# EAGLE library part 61302625721 (library Wurth_Elektronik_Electromechanic_Board_to_Board_Connectors_rev16a)
WR-PHD 2.54mm Dual Socket Header Bottom Entry, 26 Pins =>Code : Con_BTB_SHD_2.54_2_61302625721 <http://katalog.we-online.de/media/images/eican/Con_BTB_SHD_2.54_2_6130xx25721_pf2.jpg> Details see: http://katalog.we-online.de/en/em/613_0xx_257_21 Created 2014-05-30, Karrer Zheng 2014 (C) Würth Elektronik
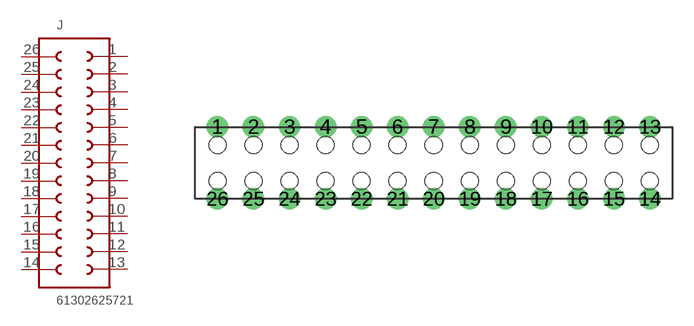
[diagram p163: symbol with the pads of 61302625721; footprint 61302625721]

Designator prefix J

## 61302625721  [61302625721]
1  1  pas
2  2  pas
3  3  pas
4  4  pas
5  5  pas
6  6  pas
7  7  pas
8  8  pas
9  9  pas
10  10  pas
11  11  pas
12  12  pas
13  13  pas
14  14  pas
15  15  pas
16  16  pas
17  17  pas
18  18  pas
19  19  pas
20  20  pas
21  21  pas
22  22  pas
23  23  pas
24  24  pas
25  25  pas
26  26  pas

## Footprint 61302625721 (pad centres in mm)
WR-PHD 2.54mm Dual Socket Header Bottom Entry, 26 Pins
drill 1: 1 -15.24,2.54; 2 -12.7,2.54; 3 -10.16,2.54; 4 -7.62,2.54; 5 -5.08,2.54; 6 -2.54,2.54; 7 0,2.54; 8 2.54,2.54; 9 5.08,2.54; 10 7.62,2.54; 11 10.16,2.54; 12 12.7,2.54; 13 15.24,2.54; 14 15.24,-2.54; 15 12.7,-2.54; 16 10.16,-2.54; 17 7.62,-2.54; 18 5.08,-2.54; 19 2.54,-2.54; 20 0,-2.54; 21 -2.54,-2.54; 22 -5.08,-2.54; 23 -7.62,-2.54; 24 -10.16,-2.54; 25 -12.7,-2.54; 26 -15.24,-2.54
hole 1.2 at -15.24,1.27
hole 1.2 at -12.7,1.27
hole 1.2 at -10.16,1.27
hole 1.2 at -7.62,1.27
hole 1.2 at -5.08,1.27
hole 1.2 at -2.54,1.27
hole 1.2 at 0,1.27
hole 1.2 at 2.54,1.27
hole 1.2 at 5.08,1.27
hole 1.2 at 7.62,1.27
hole 1.2 at 10.16,1.27
hole 1.2 at 12.7,1.27
hole 1.2 at 15.24,1.27
hole 1.2 at -15.24,-1.27
hole 1.2 at -12.7,-1.27
hole 1.2 at -10.16,-1.27
hole 1.2 at -7.62,-1.27
hole 1.2 at -5.08,-1.27
hole 1.2 at -2.54,-1.27
hole 1.2 at 0,-1.27
hole 1.2 at 2.54,-1.27
hole 1.2 at 5.08,-1.27
hole 1.2 at 7.62,-1.27
hole 1.2 at 10.16,-1.27
hole 1.2 at 12.7,-1.27
hole 1.2 at 15.24,-1.27